# EAGLE library part FH12A-40S-0.5SH(55) (library hirose)
SOCKET FFC/FPC, ZIF, 0.5MM, 40WAY
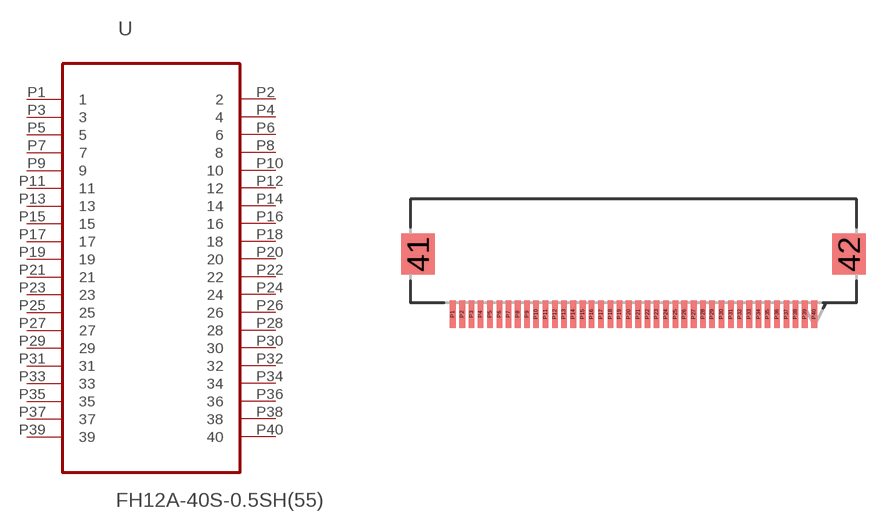
[diagram p4: symbol with the pads of HIROSE_FH12A-40S-0.5SH(55); footprint HIROSE_FH12A-40S-0.5SH(55)]

Designator prefix U

## FH12A-40S-0.5SH(55) (MPN: FH12A-40S-0.5SH(55); OC_FARNELL: 1324569; OC_NEWARK: 34M6194; PACKAGE: SOCKET FFC/FPC, ZIF, 0.5MM, 40WAY; SUPPLIER: Hirose)  [HIROSE_FH12A-40S-0.5SH(55)]
P1  1  pas
P2  2  pas
P3  3  pas
P4  4  pas
P5  5  pas
P6  6  pas
P7  7  pas
P8  8  pas
P9  9  pas
P10  10  pas
P11  11  pas
P12  12  pas
P13  13  pas
P14  14  pas
P15  15  pas
P16  16  pas
P17  17  pas
P18  18  pas
P19  19  pas
P20  20  pas
P21  21  pas
P22  22  pas
P23  23  pas
P24  24  pas
P25  25  pas
P26  26  pas
P27  27  pas
P28  28  pas
P29  29  pas
P30  30  pas
P31  31  pas
P32  32  pas
P33  33  pas
P34  34  pas
P35  35  pas
P36  36  pas
P37  37  pas
P38  38  pas
P39  39  pas
P40  40  pas

## Footprint HIROSE_FH12A-40S-0.5SH(55) (pad centres in mm)
smd 1.803 x 2.21: 41 -11.633,6.68; 42 11.633,6.68
smd 0.305 x 1.499: P1 -9.754,3.429; P2 -9.246,3.429; P3 -8.738,3.429; P4 -8.255,3.429; P5 -7.747,3.429; P6 -7.239,3.429; P7 -6.756,3.429; P8 -6.248,3.429; P9 -5.74,3.429; P10 -5.258,3.429; P11 -4.75,3.429; P12 -4.242,3.429; P13 -3.759,3.429; P14 -3.251,3.429; P15 -2.743,3.429; P16 -2.261,3.429; P17 -1.753,3.429; P18 -1.245,3.429; P19 -0.762,3.429; P20 -0.254,3.429; P21 0.254,3.429; P22 0.762,3.429; P23 1.245,3.429; P24 1.753,3.429; P25 2.261,3.429; P26 2.743,3.429; P27 3.251,3.429; P28 3.759,3.429; P29 4.242,3.429; P30 4.75,3.429; P31 5.258,3.429; P32 5.74,3.429; P33 6.248,3.429; P34 6.756,3.429; P35 7.239,3.429; P36 7.747,3.429; P37 8.255,3.429; P38 8.738,3.429; P39 9.246,3.429; P40 9.754,3.429